# Altium schematic symbol library 600F270FT250XT.SchLib: 1 symbol
Pins are listed as number, name and electrical type; pins without a type are passive.

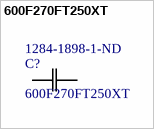
[diagram p0: symbol 600F270FT250XT]

## 600F270FT250XT
designator C?  Supplier Part Number 1: 1284-1898-1-ND
No Description Available; Mfr_Name: American Technical Ceramics; Manufacturer: Kyocera AVX; Type: DEV; Copyright: Copyright (C) 2023 Ultra Librarian. All rights reserved.; Manufacturer_Part_Number: 600F270FT250XT; Digi-Key_Part_Number_1: 1284-1898-2-ND; Digi-Key_Part_Number_2: 1284-1898-1-ND; Digi-Key_Part_Number_3: 1284-1898-6-ND; RefDes: RefDes; Supplier 1: Digi-Key; Manufacturer Part Number: 600F270FT250XT; RoHS: No; Category: Uncategorized; Stock 1: 13151; Pricing 1: 1=2.22000, 10=1.79200, 50=1.56420, 100=1.36870 (USD)
footprint CAP_600F0R1AT250T_ATC-M
pins: 1, 2